# Altium footprint library pulseox-main-PCBLib.PcbLib: 18 footprints (part 2 of 2)
Each footprint in its own frame and in the unit in brackets; x right, y up, seen from the top. Pads: shape width x height; smd on the part's side, far side on the other; paste and mask are expansions set on the pad; w line width, h text height; cw(c..) or ccw(c..) is an arc to the next point about the centre after c.
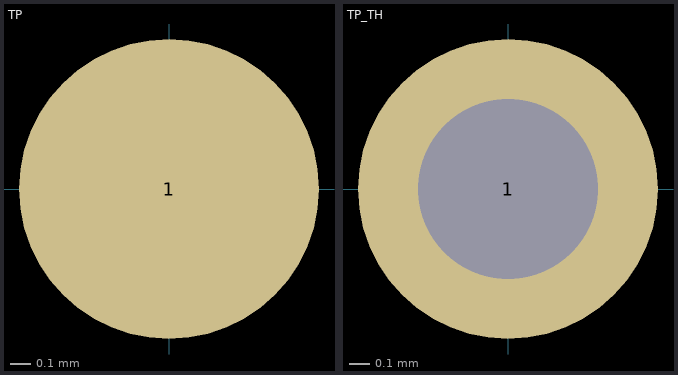
[diagram p1: the footprints below, top view; thin cyan lines are the x and y axes]

## TP [mm]
pads (1):
  round 1.5 smd: 1(0,0)

## TP_TH [mm]
pads (1):
  round 1.5 hole 0.9: 1(0,0)